# Altium footprint library SOD2513X120N.PcbLib: 1 footprints
Each footprint in its own frame and in the unit in brackets; x right, y up, seen from the top. Pads: shape width x height; smd on the part's side, far side on the other; paste and mask are expansions set on the pad; w line width, h text height; cw(c..) or ccw(c..) is an arc to the next point about the centre after c.
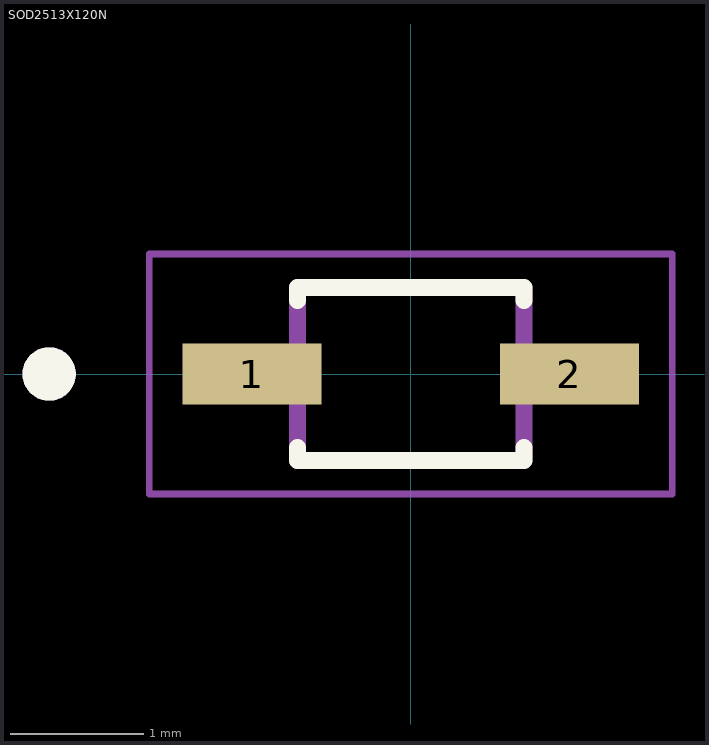
[diagram p0: the footprint, top view; thin cyan lines are the x and y axes]

## SOD2513X120N [mm]
pads (2):
  rect 1.04x0.46 smd: 1(-1.19,0) 2(1.19,0)
Top Overlay:
  circle w0.2: c-2.71,0 r0.1
  lines w0.127: -0.85,-0.55 -0.85,-0.65 0.85,-0.65 0.85,-0.55 ; -0.85,0.55 -0.85,0.65 0.85,0.65 0.85,0.55
Mechanical 13:
  circle w0.2: c-2.71,0 r0.1
  lines w0.127: -0.85,-0.65 -0.85,0.65 0.85,0.65 0.85,-0.65 -0.85,-0.65
Mechanical 15:
  lines w0.05: -1.96,-0.9 1.96,-0.9 1.96,0.9 -1.96,0.9 -1.96,-0.9
3D body "step_temp.STEP": height 1, standoff 0, extent -1.312,-0.65 1.312,0.65